# EAGLE library part SI8442A (library canusb)
Si8440/41/42/45 LOW-POWER QUAD-CHANNEL DIGITAL ISOLATOR
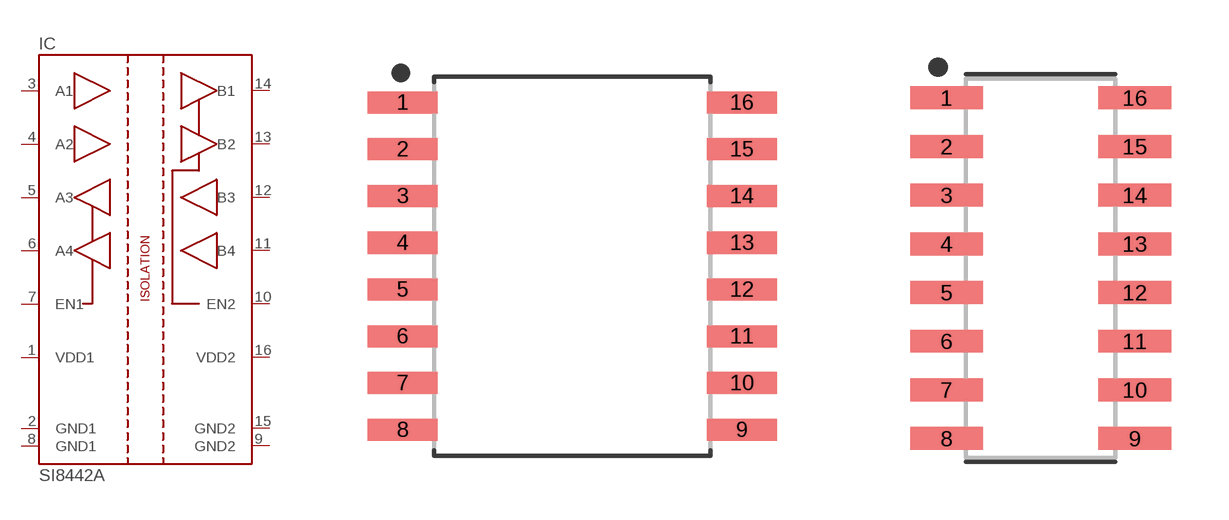
[diagram p1: symbol with the pads of SOIC127P1030X265-16N; footprints SOIC127P1030X265-16N, SOIC127P600X175-16N]

Designator prefix IC

## SI8442AB  [SOIC127P1030X265-16N]
1  VDD1  pwr
2  GND1  pwr
3  A1  out
4  A2  out
5  A3  in
6  A4  in
7  EN1  in
8  GND1  pwr
9  GND2  pwr
10  EN2  in
11  B4  in
12  B3  in
13  B2  out
14  B1  out
15  GND2  pwr
16  VDD2  pwr

## SI8442AA  [SOIC127P600X175-16N]
Pads as for SOIC127P1030X265-16N

## Footprint SOIC127P1030X265-16N (pad centres in mm)
16-SOIC, 1.27 mm pitch, 10.30 mm span, 10.30 X 7.50 X 2.65 mm body 16-pin SOIC package with 1.27 mm pitch, 10.30 mm span with body size 10.30 X 7.50 X 2.65 mm
smd 1.901 x 0.599: 1 -4.605,4.445; 2 -4.605,3.175; 3 -4.605,1.905; 4 -4.605,0.635; 5 -4.605,-0.635; 6 -4.605,-1.905; 7 -4.605,-3.175; 8 -4.605,-4.445; 9 4.605,-4.445; 10 4.605,-3.175; 11 4.605,-1.905; 12 4.605,-0.635; 13 4.605,0.635; 14 4.605,1.905; 15 4.605,3.175; 16 4.605,4.445

## Footprint SOIC127P600X175-16N (pad centres in mm)
16-SOIC, 1.27 mm pitch, 6.00 mm span, 9.90 X 3.90 X 1.75 mm body 16-pin SOIC package with 1.27 mm pitch, 6.00 mm span with body size 9.90 X 3.90 X 1.75 mm
smd 1.901 x 0.599: 1 -2.455,4.445; 2 -2.455,3.175; 3 -2.455,1.905; 4 -2.455,0.635; 5 -2.455,-0.635; 6 -2.455,-1.905; 7 -2.455,-3.175; 8 -2.455,-4.445; 9 2.455,-4.445; 10 2.455,-3.175; 11 2.455,-1.905; 12 2.455,-0.635; 13 2.455,0.635; 14 2.455,1.905; 15 2.455,3.175; 16 2.455,4.445